# Altium schematic symbol library usbb_lib.SchLib: 2 symbols
Pins are listed as number, name and electrical type; pins without a type are passive.

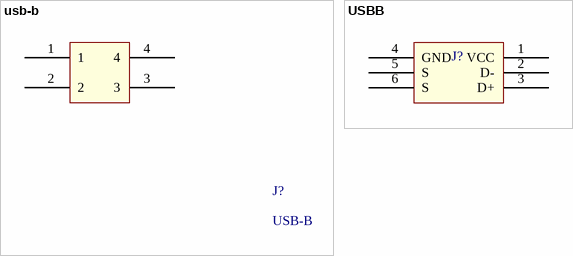
[diagram p0: symbols usb-b to USBB]

## usb-b
designator J?, comment USB-B
pins: 1, 2, 3, 4

## USBB
designator J?
USBB
footprint PCBComponent_1
pins: 1 VCC (power), 2 D-, 3 D+, 4 GND (power), 5 S, 6 S